# EAGLE library part TXB0108 (library custom-devices)
8x Channel Level-Shifter
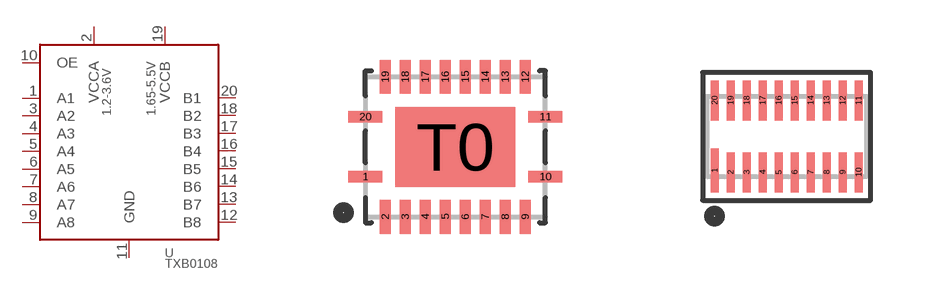
[diagram p17: symbol with the pads of VFQFN20; footprints VFQFN20, UFDFN20]

Designator prefix U

## TXB0108_RGY (DIGI-KEY: 296-21528-1-ND)  [VFQFN20]
1  A1
2  VCCA  pwr
3  A2
4  A3
5  A4
6  A5
7  A6
8  A7
9  A8
10  OE
11  GND  pwr
12  B8
13  B7
14  B6
15  B5
16  B4
17  B3
18  B2
19  VCCB  pwr
20  B1

## TXB0108_DQS (DIGI-KEY: 296-27217-1-ND)  [UFDFN20]
1  A1
2  A2
3  A3
4  A4
5  VCCA  pwr
6  OE
7  A5
8  A6
9  A7
10  A8
11  B8
12  B7
13  B6
14  B5
15  GND  pwr
16  VCCB  pwr
17  B4
18  B3
19  B2
20  B1

## TXB0108_PW (DIGI-KEY: 296-21527-1-ND)  [TSSOP20]
Pads as for VFQFN20

## Footprint VFQFN20 (pad centres in mm)
smd 0.85 x 0.28: 1 -2.25,-0.75; 10 2.25,-0.75; 11 2.25,0.75; 20 -2.25,0.75
smd 0.28 x 0.85: 2 -1.75,-1.75; 3 -1.25,-1.75; 4 -0.75,-1.75; 5 -0.25,-1.75; 6 0.25,-1.75; 7 0.75,-1.75; 8 1.25,-1.75; 9 1.75,-1.75; 12 1.75,1.75; 13 1.25,1.75; 14 0.75,1.75; 15 0.25,1.75; 16 -0.25,1.75; 17 -0.75,1.75; 18 -1.25,1.75; 19 -1.75,1.75
smd 3 x 2: T0 0,0

## Footprint UFDFN20 (pad centres in mm)
smd 0.2 x 1.1: 1 -1.8,-0.85
smd 0.2 x 1: 2 -1.4,-0.9; 3 -1,-0.9; 4 -0.6,-0.9; 5 -0.2,-0.9; 6 0.2,-0.9; 7 0.6,-0.9; 8 1,-0.9; 9 1.4,-0.9; 10 1.8,-0.9; 11 1.8,0.9; 12 1.4,0.9; 13 1,0.9; 14 0.6,0.9; 15 0.2,0.9; 16 -0.2,0.9; 17 -0.6,0.9; 18 -1,0.9; 19 -1.4,0.9; 20 -1.8,0.9

## Footprint TSSOP20 (pad centres in mm)
smd 1.6 x 0.3: 1 -2.8,2.95; 2 -2.8,2.3; 3 -2.8,1.65; 4 -2.8,1; 5 -2.8,0.35; 6 -2.8,-0.35; 7 -2.8,-1; 8 -2.8,-1.65; 9 -2.8,-2.3; 10 -2.8,-2.95; 11 2.8,-2.95; 12 2.8,-2.3; 13 2.8,-1.65; 14 2.8,-1; 15 2.8,-0.35; 16 2.8,0.35; 17 2.8,1; 18 2.8,1.65; 19 2.8,2.3; 20 2.8,2.95